# Altium footprint library PCB - BATTERY HOLDER - MPD BH9VPC.PCBLIB: 1 footprints
Each footprint in its own frame and in the unit in brackets; x right, y up, seen from the top. Pads: shape width x height; smd on the part's side, far side on the other; paste and mask are expansions set on the pad; w line width, h text height; cw(c..) or ccw(c..) is an arc to the next point about the centre after c.
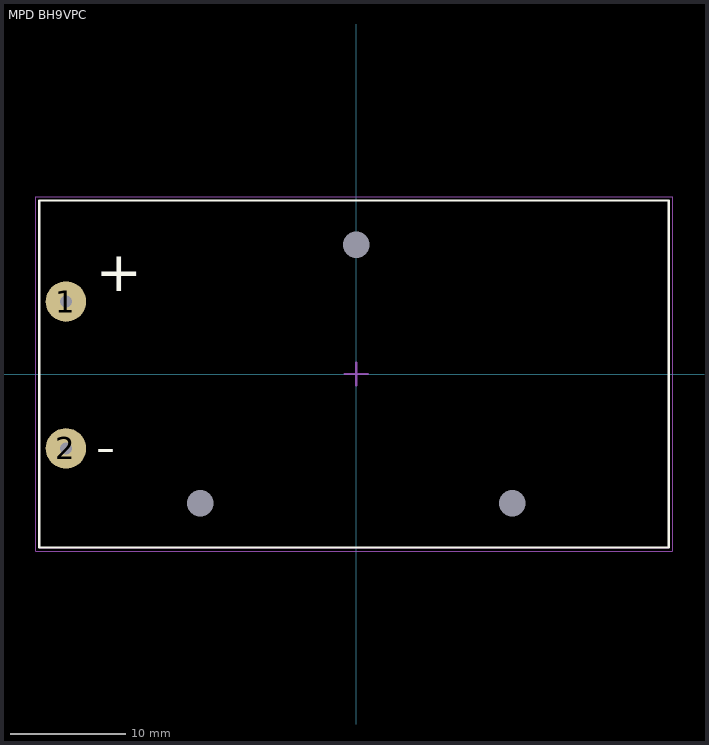
[diagram p0: the footprint, top view; thin cyan lines are the x and y axes]

## MPD BH9VPC [mm]
height 20.62
pads (5):
  round 3.5 hole 1.016 unplated: 1(-25.087,6.265) 2(-25.087,-6.435)
  rect 0x0 hole 2.29 unplated: M(-13.487,-11.175) M(0.003,11.175) M(13.483,-11.175)
Top Overlay:
  lines w0.2: -27.387,-15 -27.387,15 27.013,15 27.013,-15 -27.387,-15
  text "-" at -22.487,-9 h6
  text "+" at -22.487,6 h6
Mechanical 13:
  lines w0.1: -27.387,-15 27.013,-15 27.013,15 -27.387,15 -27.387,-15
Mechanical 15:
  lines w0.05: -27.687,-15.3 27.313,-15.3 27.313,15.3 -27.687,15.3 -27.687,-15.3
  lines w0.2: -1,0 1,0 ; 0,-1 0,1
3D body "MPD - BH9VPC.step": height 20.62, standoff -6.6, extent -27.314,-14.99 27.042,14.982